# Altium footprint library РАЗЪЕМЫ-MM.PcbLib: 85 footprints (part 5 of 6)
Each footprint in its own frame and in the unit in brackets; x right, y up, seen from the top. Pads: shape width x height; smd on the part's side, far side on the other; paste and mask are expansions set on the pad; w line width, h text height; cw(c..) or ccw(c..) is an arc to the next point about the centre after c.
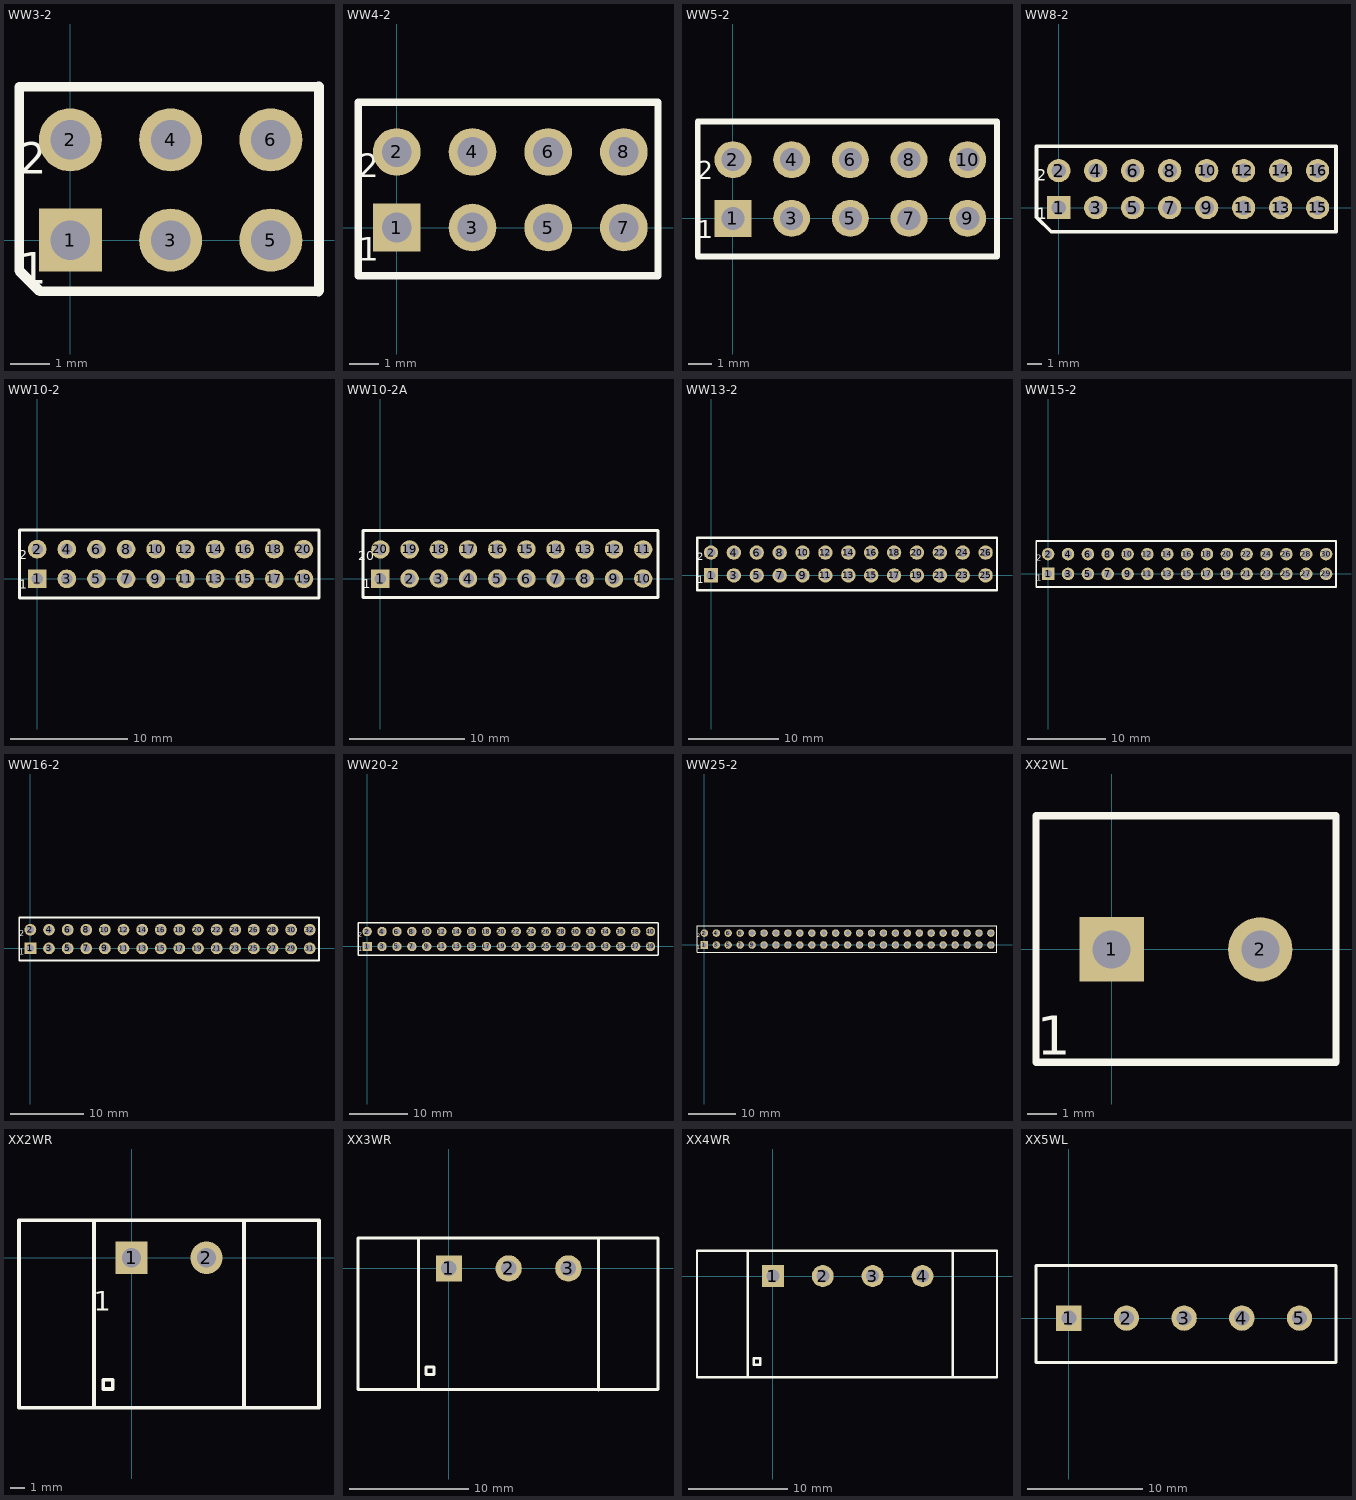
[diagram p4: the footprints below, top view; thin cyan lines are the x and y axes]

## WW3-2 [mm]
pads (6):
  rect 1.6x1.6 hole 1: 1(0,0)
  round 1.6 hole 1: 2(0,2.54) 3(2.54,0) 4(2.54,2.54) 5(5.08,0) 6(5.08,2.54)
Top Overlay:
  lines w0.25: 6.29,-1.3 0,-1.295 -0.777,-1.295 -1.295,-0.777 -1.295,0 -1.295,3.886 6.29,3.89 ; 6.297,-1.275 6.3,3.89
  text "2" at -1.302,1.683 h0.79
  text "1" at -1.302,-1.111 h0.79

## WW4-2 [mm]
pads (8):
  rect 1.6x1.6 hole 1: 1(0,0)
  round 1.6 hole 1: 2(0,2.54) 3(2.54,0) 4(2.54,2.54) 5(5.08,0) 6(5.08,2.54) 7(7.62,0) 8(7.62,2.54)
Top Overlay:
  lines w0.25: -1.295,4.21 -1.295,-1.619 8.76,-1.62 ; -1.29,4.21 8.758,4.21 ; 8.768,-1.619 8.768,4.21
  text "2" at -1.302,1.683 h0.79
  text "1" at -1.302,-1.111 h0.79

## WW5-2 [mm]
pads (10):
  rect 1.6x1.6 hole 1: 1(0,0)
  round 1.6 hole 1: 2(0,2.54) 3(2.54,0) 4(2.54,2.54) 5(5.08,0) 6(5.08,2.54) 7(7.62,0) 8(7.62,2.54) 9(10.16,0) 10(10.16,2.54)
Top Overlay:
  lines w0.25: 11.42,-1.65 -1.524,-1.651 -1.524,4.191 11.42,4.19 ; 11.428,-1.651 11.428,4.191
  text "2" at -1.556,1.683 h0.79
  text "1" at -1.556,-0.857 h0.79

## WW8-2 [mm]
pads (16):
  rect 1.6x1.6 hole 1: 1(0,0)
  round 1.6 hole 1: 2(0,2.54) 3(2.54,0) 4(2.54,2.54) 5(5.08,0) 6(5.08,2.54) 7(7.62,0) 8(7.62,2.54) 9(10.16,0) 10(10.16,2.54) 11(12.7,0) 12(12.7,2.54) 13(15.24,0) 14(15.24,2.54) 15(17.78,0) 16(17.78,2.54)
Top Overlay:
  lines w0.25: 19.04,-1.66 -0.517,-1.667 -1.523,-0.661 -1.523,4.216 19.04,4.22 ; 19.047,-1.667 19.047,4.216
  text "2" at -1.56,1.85 h0.79
  text "1" at -1.51,-0.815 h0.79

## WW10-2 [mm]
pads (20):
  rect 1.6x1.6 hole 1: 1(0,0)
  round 1.6 hole 1: 2(0,2.54) 3(2.54,0) 4(2.54,2.54) 5(5.08,0) 6(5.08,2.54) 7(7.62,0) 8(7.62,2.54) 9(10.16,0) 10(10.16,2.54) 11(12.7,0) 12(12.7,2.54) 13(15.24,0) 14(15.24,2.54) 15(17.78,0) 16(17.78,2.54) 17(20.32,0) 18(20.32,2.54) 19(22.86,0) 20(22.86,2.54)
Top Overlay:
  lines w0.25: 24.14,-1.65 -1.524,-1.651 -1.524,4.191 24.14,4.19 ; 24.146,-1.641 24.15,4.19
  text "2" at -1.556,1.683 h0.79
  text "1" at -1.556,-0.857 h0.79

## WW10-2A [mm]
pads (20):
  rect 1.6x1.6 hole 1: 1(0,0)
  round 1.6 hole 1: 2(2.54,0) 3(5.08,0) 4(7.62,0) 5(10.16,0) 6(12.7,0) 7(15.24,0) 8(17.78,0) 9(20.32,0) 10(22.86,0) 11(22.86,2.54) 12(20.32,2.54) 13(17.78,2.54) 14(15.24,2.54) 15(12.7,2.54) 16(10.16,2.54) 17(7.62,2.54) 18(5.08,2.54) 19(2.54,2.54) 20(0,2.54)
Top Overlay:
  lines w0.25: 24.14,-1.65 -1.524,-1.651 -1.524,4.191 24.14,4.19 ; 24.146,-1.641 24.15,4.19
  text "20" at -1.953,1.603 h0.79
  text "1" at -1.556,-0.857 h0.79

## WW13-2 [mm]
pads (26):
  rect 1.6x1.6 hole 1: 1(0,0)
  round 1.6 hole 1: 2(0,2.54) 3(2.54,0) 4(2.54,2.54) 5(5.08,0) 6(5.08,2.54) 7(7.62,0) 8(7.62,2.54) 9(10.16,0) 10(10.16,2.54) 11(12.7,0) 12(12.7,2.54) 13(15.24,0) 14(15.24,2.54) 15(17.78,0) 16(17.78,2.54) 17(20.32,0) 18(20.32,2.54) 19(22.86,0) 20(22.86,2.54) 21(25.4,0) 22(25.4,2.54) 23(27.94,0) 24(27.94,2.54) 25(30.48,0) 26(30.48,2.54)
Top Overlay:
  lines w0.254: 31.73,-1.65 -1.524,-1.651 -1.524,4.191 31.73,4.19 ; 31.746,-1.651 31.746,4.191
  text "2" at -1.556,1.683 h0.79
  text "1" at -1.556,-0.857 h0.79

## WW15-2 [mm]
pads (30):
  rect 1.6x1.6 hole 1: 1(0,0)
  round 1.6 hole 1: 2(0,2.54) 3(2.54,0) 4(2.54,2.54) 5(5.08,0) 6(5.08,2.54) 7(7.62,0) 8(7.62,2.54) 9(10.16,0) 10(10.16,2.54) 11(12.7,0) 12(12.7,2.54) 13(15.24,0) 14(15.24,2.54) 15(17.78,0) 16(17.78,2.54) 17(20.32,0) 18(20.32,2.54) 19(22.86,0) 20(22.86,2.54) 21(25.4,0) 22(25.4,2.54) 23(27.94,0) 24(27.94,2.54) 25(30.48,0) 26(30.48,2.54) 27(33.02,0) 28(33.02,2.54) 29(35.56,0) 30(35.56,2.54)
Top Overlay:
  lines w0.25: 36.81,4.19 -1.524,4.191 -1.524,-1.651 36.82,-1.66 ; 36.829,-1.641 36.829,4.201
  text "2" at -1.556,1.683 h0.79
  text "1" at -1.556,-0.857 h0.79

## WW16-2 [mm]
pads (32):
  rect 1.6x1.6 hole 1: 1(0,0)
  round 1.6 hole 1: 2(0,2.54) 3(2.54,0) 4(2.54,2.54) 5(5.08,0) 6(5.08,2.54) 7(7.62,0) 8(7.62,2.54) 9(10.16,0) 10(10.16,2.54) 11(12.7,0) 12(12.7,2.54) 13(15.24,0) 14(15.24,2.54) 15(17.78,0) 16(17.78,2.54) 17(20.32,0) 18(20.32,2.54) 19(22.86,0) 20(22.86,2.54) 21(25.4,0) 22(25.4,2.54) 23(27.94,0) 24(27.94,2.54) 25(30.48,0) 26(30.48,2.54) 27(33.02,0) 28(33.02,2.54) 29(35.56,0) 30(35.56,2.54) 31(38.1,0) 32(38.1,2.54)
Top Overlay:
  lines w0.25: 39.35,-1.64 -1.524,-1.651 -1.524,4.191 39.36,4.21 ; 39.367,-1.641 39.367,4.201
  text "2" at -1.556,1.683 h0.79
  text "1" at -1.556,-0.857 h0.79

## WW20-2 [mm]
pads (40):
  rect 1.6x1.6 hole 1: 1(0,0)
  round 1.6 hole 1: 2(0,2.54) 3(2.54,0) 4(2.54,2.54) 5(5.08,0) 6(5.08,2.54) 7(7.62,0) 8(7.62,2.54) 9(10.16,0) 10(10.16,2.54) 11(12.7,0) 12(12.7,2.54) 13(15.24,0) 14(15.24,2.54) 15(17.78,0) 16(17.78,2.54) 17(20.32,0) 18(20.32,2.54) 19(22.86,0) 20(22.86,2.54) 21(25.4,0) 22(25.4,2.54) 23(27.94,0) 24(27.94,2.54) 25(30.48,0) 26(30.48,2.54) 27(33.02,0) 28(33.02,2.54) 29(35.56,0) 30(35.56,2.54) 31(38.1,0) 32(38.1,2.54) 33(40.64,0) 34(40.64,2.54) 35(43.18,0) 36(43.18,2.54) 37(45.72,0) 38(45.72,2.54) 39(48.26,0) 40(48.26,2.54)
Top Overlay:
  lines w0.25: 49.52,-1.52 -1.524,-1.524 -1.524,4.064 49.52,4.05 ; 49.536,-1.524 49.536,4.064
  text "2" at -1.556,1.683 h0.79
  text "1" at -1.556,-0.857 h0.79

## WW25-2 [mm]
pads (50):
  rect 1.6x1.6 hole 1: 1(0,0)
  round 1.6 hole 1: 2(0,2.54) 3(2.54,0) 4(2.54,2.54) 5(5.08,0) 6(5.08,2.54) 7(7.62,0) 8(7.62,2.54) 9(10.16,0) 10(10.16,2.54) 11(12.7,0) 12(12.7,2.54) 13(15.24,0) 14(15.24,2.54) 15(17.78,0) 16(17.78,2.54) 17(20.32,0) 18(20.32,2.54) 19(22.86,0) 20(22.86,2.54) 21(25.4,0) 22(25.4,2.54) 23(27.94,0) 24(27.94,2.54) 25(30.48,0) 26(30.48,2.54) 27(33.02,0) 28(33.02,2.54) 29(35.56,0) 30(35.56,2.54) 31(38.1,0) 32(38.1,2.54) 33(40.64,0) 34(40.64,2.54) 35(43.18,0) 36(43.18,2.54) 37(45.72,0) 38(45.72,2.54) 39(48.26,0) 40(48.26,2.54) 41(50.8,0) 42(50.8,2.54) 43(53.34,0) 44(53.34,2.54) 45(55.88,0) 46(55.88,2.54) 47(58.42,0) 48(58.42,2.54) 49(60.96,0) 50(60.96,2.54)
Top Overlay:
  lines w0.25: 62.23,-1.52 -1.524,-1.524 -1.524,4.064 62.23,4.07 ; 62.247,-1.514 62.247,4.074
  text "2" at -1.556,1.683 h0.79
  text "1" at -1.556,-0.857 h0.79

## XX2WL [mm]
pads (2):
  rect 2.2x2.2 hole 1.3: 1(0,0)
  round 2.2 hole 1.3: 2(5.08,0)
Top Overlay:
  lines w0.25: -2.591,-3.861 7.671,-3.861 7.671,4.572 -2.591,4.572 -2.591,-3.861
  text "1" at -2.558,-3.599 h1.33
Mechanical 1:

## XX2WR [mm]
pads (2):
  rect 2.2x2.2 hole 1.3: 1(0,0)
  round 2.2 hole 1.3: 2(5.08,0)
Top Overlay:
  lines w0.25: -2.54,-10.16 -2.54,2.54 ; 7.62,-10.16 7.62,2.54 ; -7.62,-10.16 12.7,-10.16 12.7,2.54 -7.62,2.54 -7.62,-10.16 ; -1.905,-8.89 -1.27,-8.89 -1.27,-8.255 -1.905,-8.255 -1.905,-8.89
  text "1" at -2.558,-3.599 h1.33
Mechanical 1:

## XX3WR [mm]
pads (3):
  rect 2.2x2.2 hole 1.3: 1(0,0)
  round 2.2 hole 1.3: 2(5,0) 3(10,0)
Top Overlay:
  lines w0.25: -2.54,-10.16 -2.54,2.54 ; 12.53,-10.18 12.53,2.52 ; 17.5,2.54 -7.62,2.54 -7.62,-10.16 17.51,-10.16 17.51,2.54 ; -1.905,-8.89 -1.905,-8.255 -1.27,-8.255 -1.27,-8.89 -1.905,-8.89
Mechanical 1:

## XX4WR [mm]
pads (4):
  rect 2.2x2.2 hole 1.3: 1(0,0)
  round 2.2 hole 1.3: 2(5,0) 3(10,0) 4(15,0)
Top Overlay:
  lines w0.25: -2.54,-10.16 -2.54,2.54 ; 18.035,-10.16 18.035,2.54 ; 22.47,2.54 -7.62,2.54 -7.62,-10.16 22.48,-10.16 22.48,2.54 ; -1.905,-8.89 -1.905,-8.255 -1.27,-8.255 -1.27,-8.89 -1.905,-8.89
Mechanical 1:

## XX5WL [mm]
pads (5):
  rect 2.2x2.2 hole 1.3: 1(0,0)
  round 2.2 hole 1.3: 2(5,0) 3(10,0) 4(15,0) 5(20,0)
Top Overlay:
  lines w0.25: -2.845,-3.861 23.165,-3.861 23.165,4.572 -2.845,4.572 -2.845,-3.861
Mechanical 1: